# EAGLE library part PIC18F14K50-E-P (library pic18f14k50)
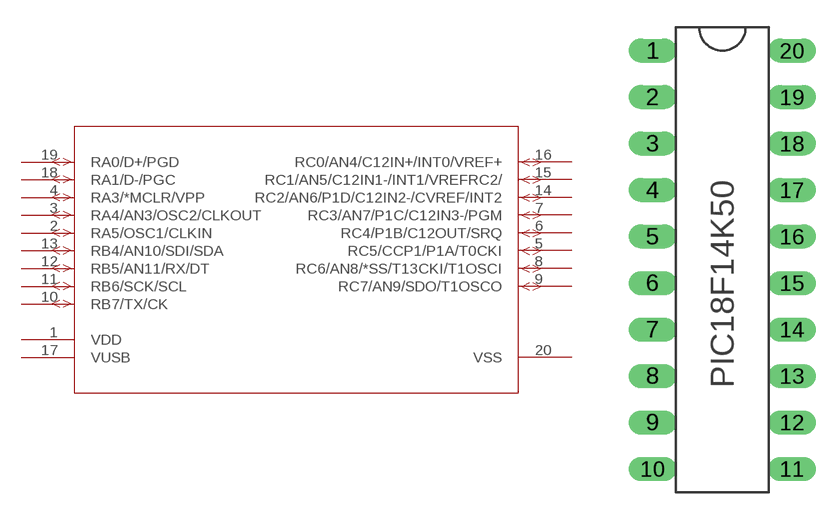
[diagram p0: symbol with the pads of PIC18F14K50-E/P; footprint PIC18F14K50-E/P]

Designator prefix -

## PIC18F14K50-E-P  [PIC18F14K50-E/P]
1  VDD  pas
2  RA5/OSC1/CLKIN  pas
3  RA4/AN3/OSC2/CLKOUT  pas
4  RA3/*MCLR/VPP  pas
5  RC5/CCP1/P1A/T0CKI  pas
6  RC4/P1B/C12OUT/SRQ  pas
7  RC3/AN7/P1C/C12IN3-/PGM  pas
8  RC6/AN8/*SS/T13CKI/T1OSCI  pas
9  RC7/AN9/SDO/T1OSCO  pas
10  RB7/TX/CK  pas
11  RB6/SCK/SCL  pas
12  RB5/AN11/RX/DT  pas
13  RB4/AN10/SDI/SDA  pas
14  RC2/AN6/P1D/C12IN2-/CVREF/INT2  pas
15  RC1/AN5/C12IN1-/INT1/VREFRC2/  pas
16  RC0/AN4/C12IN+/INT0/VREF+  pas
17  VUSB  pas
18  RA1/D-/PGC  pas
19  RA0/D+/PGD  pas
20  VSS  pas

## Footprint PIC18F14K50-E/P (pad centres in mm)
drill 0.813 long: 1 -5.08,12.7; 2 -5.08,10.16; 3 -5.08,7.62; 4 -5.08,5.08; 5 -5.08,2.54; 6 -5.08,0; 7 -5.08,-2.54; 8 -5.08,-5.08; 9 -5.08,-7.62; 10 -5.08,-10.16; 11 2.54,-10.16; 12 2.54,-7.62; 13 2.54,-5.08; 14 2.54,-2.54; 15 2.54,0; 16 2.54,2.54; 17 2.54,5.08; 18 2.54,7.62; 19 2.54,10.16; 20 2.54,12.7